# EAGLE library part LTC1049CS8#PBF (library fillament-winder)
Op Amp Single Auto Zero/Chopper R-R O/P ±8V/16V 8-Pin SOIC N Tube
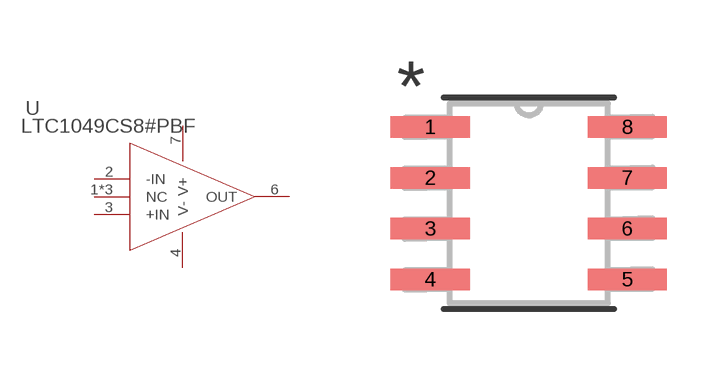
[diagram p0: symbol with the pads of SO-8_S; footprint SO-8_S]

Designator prefix U

## LTC1049CS8#PBF  [SO-8_S]
1  NC  nc
2  -IN  in
3  +IN  in
4  V-  pwr
5  NC  nc
6  OUT  out
7  V+  pwr
8  NC  nc

## Footprint SO-8_S (pad centres in mm)
smd 1.981 x 0.533: 1 -2.464,1.905; 2 -2.464,0.635; 3 -2.464,-0.635; 4 -2.464,-1.905; 5 2.464,-1.905; 6 2.464,-0.635; 7 2.464,0.635; 8 2.464,1.905